# Altium integrated library STMicroelectronics STM32 L4.IntLib: 1 symbol
Pins are listed as number, name and electrical type; pins without a type are passive.

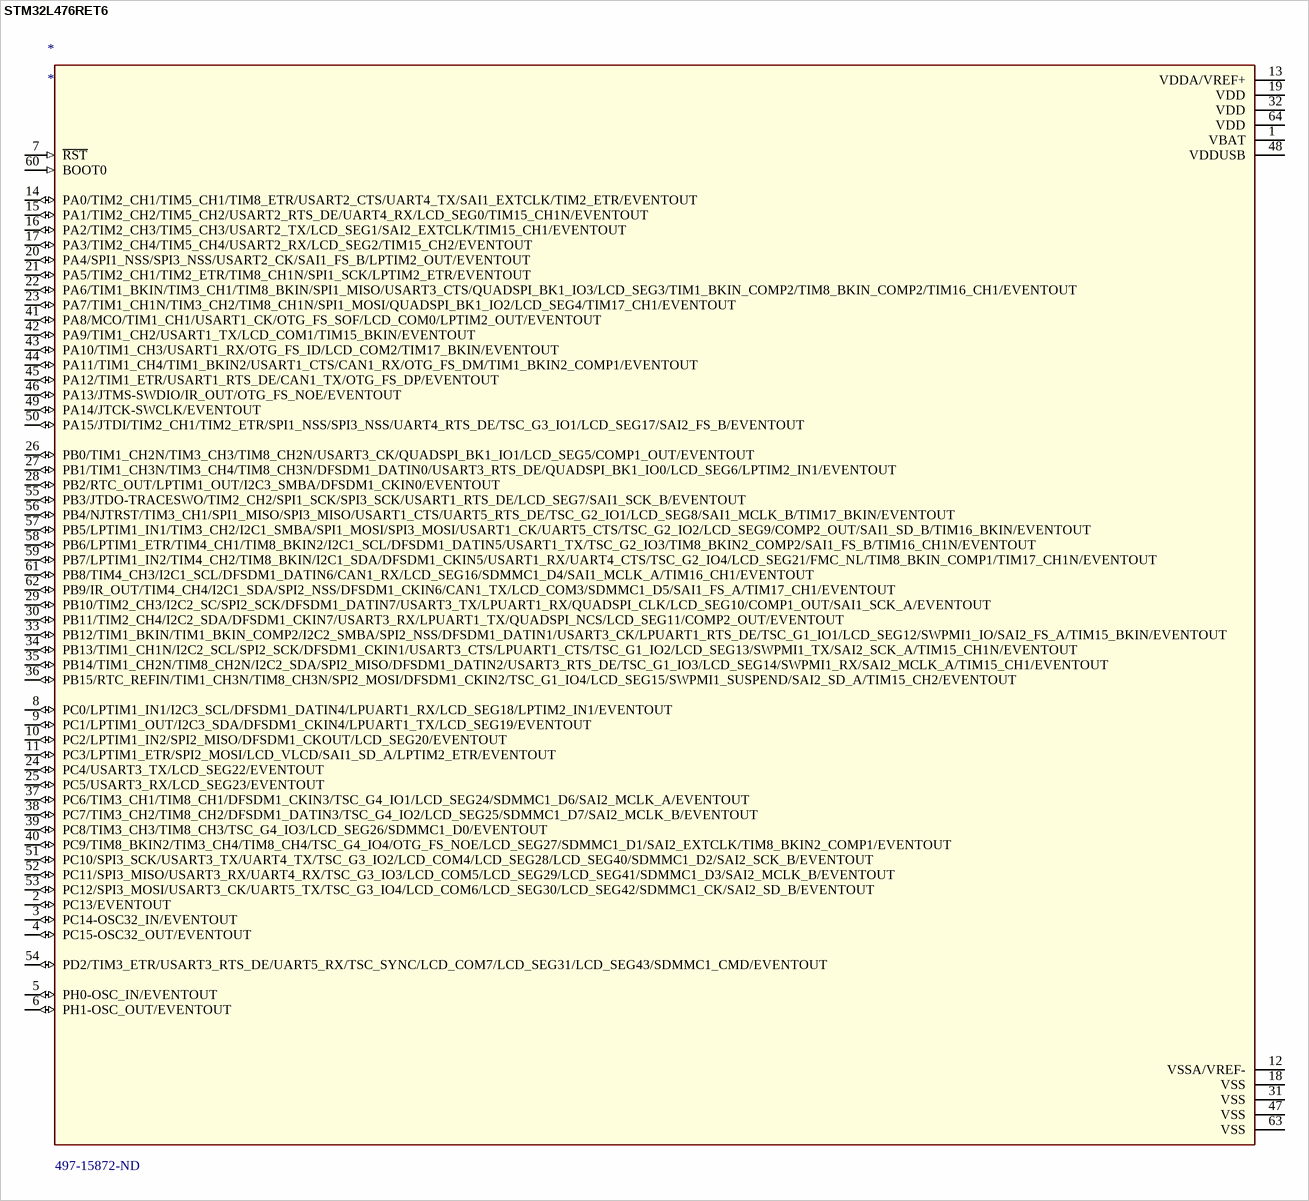
[diagram p0: symbol STM32L476RET6]

## STM32L476RET6
designator *  Supplier Part Number 1: 497-15872-ND
IC MCU 32BIT 512KB FLASH 64LQFP; Manufacturer 1: STMicroelectronics; Manufacturer Part Number 1: STM32L476RET6; Frequency: 80MHz; Interface: I2C,SPI,USB,CAN,IrDA,MMC,SD,UART,USART,LIN; Number of I/Os: 51; Oscillator Type: Internal; Data Bus Width: 32b; RAM Size: 128KB; Number of ADC Channels: 16; Data Rate: 5Mbps; Number of Timers/Counters: 11; Min Supply Voltage: 1.71V; Max Supply Voltage: 3.6V; Peripherals: Brown-out Detect/Reset,PWM,WDT,DMA,LCD; Core Architecture: ARM; Supplier 1: Digi-Key; Stock 1: 4580; Pricing 1: 1=8,07000, 10=7,29100, 100=6,03600, 500=5,25606, 1000=4,57785 (USD); RoHS: Yes; Mount: Surface Mount; Case/Package: LQFP; Number of Pins: 64; Min Operating Temperature: -40°C; Max Operating Temperature: 85°C; Packaging: Tray; Max Frequency: 80MHz; Memory Type: FLASH; Memory Size: 512KB; Length: 10mm; Height: 1.45mm; Width: 10mm; REACH SVHC: No SVHC; Lead Free: Lead Free; ComponentLink1URL: http://www.mouser.com/ds/2/389/stm32l476je-956252.pdf?src-supplier=Mouser; ComponentLink1Description: http://www.mouser.com/ds/2/389/stm32l476je-956252.pdf?src-supplier=Mouser; ComponentLink2URL: http://www.farnell.com/datasheets/2006543.pdf?src-supplier=Farnell; ComponentLink2Description: http://www.farnell.com/datasheets/2006543.pdf?src-supplier=Farnell; ComponentLink3URL: http://www.st.com/content/ccc/resource/technical/document/errata_sheet/65/dd/2c/78/59/b0/4c/68/DM00111498.pdf/files/DM00111498.pdf/jcr:content/translations/en.DM00111498.pdf?src-supplier=Digi-Key; ComponentLink3Description: http://www.st.com/content/ccc/resource/technical/document/errata_sheet/65/dd/2c/78/59/b0/4c/68/DM00111498.pdf/files/DM00111498.pdf/jcr:content/translations/en.DM00111498.pdf?src-supplier=Digi-Key; ComponentLink4URL: http://www.farnell.com/datasheets/2006543.pdf?src-supplier=Newark; ComponentLink4Description: http://www.farnell.com/datasheets/2006543.pdf?src-supplier=Newark; ComponentLink5URL: http://www.farnell.com/datasheets/1974050.pdf?src-supplier=Element14; ComponentLink5Description: http://www.farnell.com/datasheets/1974050.pdf?src-supplier=Element14
footprint *QFP64P50_1200X1200X160-64N
pins: 1 VBAT (power), 2 PC13/EVENTOUT (io), 3 PC14-OSC32_IN/EVENTOUT (io), 4 PC15-OSC32_OUT/EVENTOUT (io), 5 PH0-OSC_IN/EVENTOUT (io), 6 PH1-OSC_OUT/EVENTOUT (io), 7 ~{RST} (in), 8 PC0/LPTIM1_IN1/I2C3_SCL/DFSDM1_DATIN4/LPUART1_RX/LCD_SEG18/LPTIM2_IN1/EVENTOUT (io), 9 PC1/LPTIM1_OUT/I2C3_SDA/DFSDM1_CKIN4/LPUART1_TX/LCD_SEG19/EVENTOUT (io), 10 PC2/LPTIM1_IN2/SPI2_MISO/DFSDM1_CKOUT/LCD_SEG20/EVENTOUT (io), 11 PC3/LPTIM1_ETR/SPI2_MOSI/LCD_VLCD/SAI1_SD_A/LPTIM2_ETR/EVENTOUT (io), 12 VSSA/VREF- (power), 13 VDDA/VREF+ (power), 14 PA0/TIM2_CH1/TIM5_CH1/TIM8_ETR/USART2_CTS/UART4_TX/SAI1_EXTCLK/TIM2_ETR/EVENTOUT (io), 15 PA1/TIM2_CH2/TIM5_CH2/USART2_RTS_DE/UART4_RX/LCD_SEG0/TIM15_CH1N/EVENTOUT (io), 16 PA2/TIM2_CH3/TIM5_CH3/USART2_TX/LCD_SEG1/SAI2_EXTCLK/TIM15_CH1/EVENTOUT (io), 17 PA3/TIM2_CH4/TIM5_CH4/USART2_RX/LCD_SEG2/TIM15_CH2/EVENTOUT (io), 18 VSS (power), 19 VDD (power), 20 PA4/SPI1_NSS/SPI3_NSS/USART2_CK/SAI1_FS_B/LPTIM2_OUT/EVENTOUT (io), 21 PA5/TIM2_CH1/TIM2_ETR/TIM8_CH1N/SPI1_SCK/LPTIM2_ETR/EVENTOUT (io), 22 PA6/TIM1_BKIN/TIM3_CH1/TIM8_BKIN/SPI1_MISO/USART3_CTS/QUADSPI_BK1_IO3/LCD_SEG3/TIM1_BKIN_COMP2/TIM8_BKIN_COMP2/TIM16_CH1/EVENTOUT (io), 23 PA7/TIM1_CH1N/TIM3_CH2/TIM8_CH1N/SPI1_MOSI/QUADSPI_BK1_IO2/LCD_SEG4/TIM17_CH1/EVENTOUT (io), 24 PC4/USART3_TX/LCD_SEG22/EVENTOUT (io), 25 PC5/USART3_RX/LCD_SEG23/EVENTOUT (io), 26 PB0/TIM1_CH2N/TIM3_CH3/TIM8_CH2N/USART3_CK/QUADSPI_BK1_IO1/LCD_SEG5/COMP1_OUT/EVENTOUT (io), 27 PB1/TIM1_CH3N/TIM3_CH4/TIM8_CH3N/DFSDM1_DATIN0/USART3_RTS_DE/QUADSPI_BK1_IO0/LCD_SEG6/LPTIM2_IN1/EVENTOUT (io), 28 PB2/RTC_OUT/LPTIM1_OUT/I2C3_SMBA/DFSDM1_CKIN0/EVENTOUT (io), 29 PB10/TIM2_CH3/I2C2_SC/SPI2_SCK/DFSDM1_DATIN7/USART3_TX/LPUART1_RX/QUADSPI_CLK/LCD_SEG10/COMP1_OUT/SAI1_SCK_A/EVENTOUT (io), 30 PB11/TIM2_CH4/I2C2_SDA/DFSDM1_CKIN7/USART3_RX/LPUART1_TX/QUADSPI_NCS/LCD_SEG11/COMP2_OUT/EVENTOUT (io), 31 VSS (power), 32 VDD (power), 33 PB12/TIM1_BKIN/TIM1_BKIN_COMP2/I2C2_SMBA/SPI2_NSS/DFSDM1_DATIN1/USART3_CK/LPUART1_RTS_DE/TSC_G1_IO1/LCD_SEG12/SWPMI1_IO/SAI2_FS_A/TIM15_BKIN/EVENTOUT (io), 34 PB13/TIM1_CH1N/I2C2_SCL/SPI2_SCK/DFSDM1_CKIN1/USART3_CTS/LPUART1_CTS/TSC_G1_IO2/LCD_SEG13/SWPMI1_TX/SAI2_SCK_A/TIM15_CH1N/EVENTOUT (io), 35 PB14/TIM1_CH2N/TIM8_CH2N/I2C2_SDA/SPI2_MISO/DFSDM1_DATIN2/USART3_RTS_DE/TSC_G1_IO3/LCD_SEG14/SWPMI1_RX/SAI2_MCLK_A/TIM15_CH1/EVENTOUT (io), 36 PB15/RTC_REFIN/TIM1_CH3N/TIM8_CH3N/SPI2_MOSI/DFSDM1_CKIN2/TSC_G1_IO4/LCD_SEG15/SWPMI1_SUSPEND/SAI2_SD_A/TIM15_CH2/EVENTOUT (io), 37 PC6/TIM3_CH1/TIM8_CH1/DFSDM1_CKIN3/TSC_G4_IO1/LCD_SEG24/SDMMC1_D6/SAI2_MCLK_A/EVENTOUT (io), 38 PC7/TIM3_CH2/TIM8_CH2/DFSDM1_DATIN3/TSC_G4_IO2/LCD_SEG25/SDMMC1_D7/SAI2_MCLK_B/EVENTOUT (io), 39 PC8/TIM3_CH3/TIM8_CH3/TSC_G4_IO3/LCD_SEG26/SDMMC1_D0/EVENTOUT (io), 40 PC9/TIM8_BKIN2/TIM3_CH4/TIM8_CH4/TSC_G4_IO4/OTG_FS_NOE/LCD_SEG27/SDMMC1_D1/SAI2_EXTCLK/TIM8_BKIN2_COMP1/EVENTOUT (io), 41 PA8/MCO/TIM1_CH1/USART1_CK/OTG_FS_SOF/LCD_COM0/LPTIM2_OUT/EVENTOUT (io), 42 PA9/TIM1_CH2/USART1_TX/LCD_COM1/TIM15_BKIN/EVENTOUT (io), 43 PA10/TIM1_CH3/USART1_RX/OTG_FS_ID/LCD_COM2/TIM17_BKIN/EVENTOUT (io), 44 PA11/TIM1_CH4/TIM1_BKIN2/USART1_CTS/CAN1_RX/OTG_FS_DM/TIM1_BKIN2_COMP1/EVENTOUT (io), 45 PA12/TIM1_ETR/USART1_RTS_DE/CAN1_TX/OTG_FS_DP/EVENTOUT (io), 46 PA13/JTMS-SWDIO/IR_OUT/OTG_FS_NOE/EVENTOUT (io), 47 VSS (power), 48 VDDUSB (power), 49 PA14/JTCK-SWCLK/EVENTOUT (io), 50 PA15/JTDI/TIM2_CH1/TIM2_ETR/SPI1_NSS/SPI3_NSS/UART4_RTS_DE/TSC_G3_IO1/LCD_SEG17/SAI2_FS_B/EVENTOUT (io), 51 PC10/SPI3_SCK/USART3_TX/UART4_TX/TSC_G3_IO2/LCD_COM4/LCD_SEG28/LCD_SEG40/SDMMC1_D2/SAI2_SCK_B/EVENTOUT (io), 52 PC11/SPI3_MISO/USART3_RX/UART4_RX/TSC_G3_IO3/LCD_COM5/LCD_SEG29/LCD_SEG41/SDMMC1_D3/SAI2_MCLK_B/EVENTOUT (io), 53 PC12/SPI3_MOSI/USART3_CK/UART5_TX/TSC_G3_IO4/LCD_COM6/LCD_SEG30/LCD_SEG42/SDMMC1_CK/SAI2_SD_B/EVENTOUT (io), 54 PD2/TIM3_ETR/USART3_RTS_DE/UART5_RX/TSC_SYNC/LCD_COM7/LCD_SEG31/LCD_SEG43/SDMMC1_CMD/EVENTOUT (io), 55 PB3/JTDO-TRACESWO/TIM2_CH2/SPI1_SCK/SPI3_SCK/USART1_RTS_DE/LCD_SEG7/SAI1_SCK_B/EVENTOUT (io), 56 PB4/NJTRST/TIM3_CH1/SPI1_MISO/SPI3_MISO/USART1_CTS/UART5_RTS_DE/TSC_G2_IO1/LCD_SEG8/SAI1_MCLK_B/TIM17_BKIN/EVENTOUT (io), 57 PB5/LPTIM1_IN1/TIM3_CH2/I2C1_SMBA/SPI1_MOSI/SPI3_MOSI/USART1_CK/UART5_CTS/TSC_G2_IO2/LCD_SEG9/COMP2_OUT/SAI1_SD_B/TIM16_BKIN/EVENTOUT (io), 58 PB6/LPTIM1_ETR/TIM4_CH1/TIM8_BKIN2/I2C1_SCL/DFSDM1_DATIN5/USART1_TX/TSC_G2_IO3/TIM8_BKIN2_COMP2/SAI1_FS_B/TIM16_CH1N/EVENTOUT (io), 59 PB7/LPTIM1_IN2/TIM4_CH2/TIM8_BKIN/I2C1_SDA/DFSDM1_CKIN5/USART1_RX/UART4_CTS/TSC_G2_IO4/LCD_SEG21/FMC_NL/TIM8_BKIN_COMP1/TIM17_CH1N/EVENTOUT (io), 60 BOOT0 (in), 61 PB8/TIM4_CH3/I2C1_SCL/DFSDM1_DATIN6/CAN1_RX/LCD_SEG16/SDMMC1_D4/SAI1_MCLK_A/TIM16_CH1/EVENTOUT (io), 62 PB9/IR_OUT/TIM4_CH4/I2C1_SDA/SPI2_NSS/DFSDM1_CKIN6/CAN1_TX/LCD_COM3/SDMMC1_D5/SAI1_FS_A/TIM17_CH1/EVENTOUT (io), 63 VSS (power), 64 VDD (power)